# Altium footprint library PS29_XYD.PcbLib: 36 footprints (part 2 of 3)
Each footprint in its own frame and in the unit in brackets; x right, y up, seen from the top. Pads: shape width x height; smd on the part's side, far side on the other; paste and mask are expansions set on the pad; w line width, h text height; cw(c..) or ccw(c..) is an arc to the next point about the centre after c.
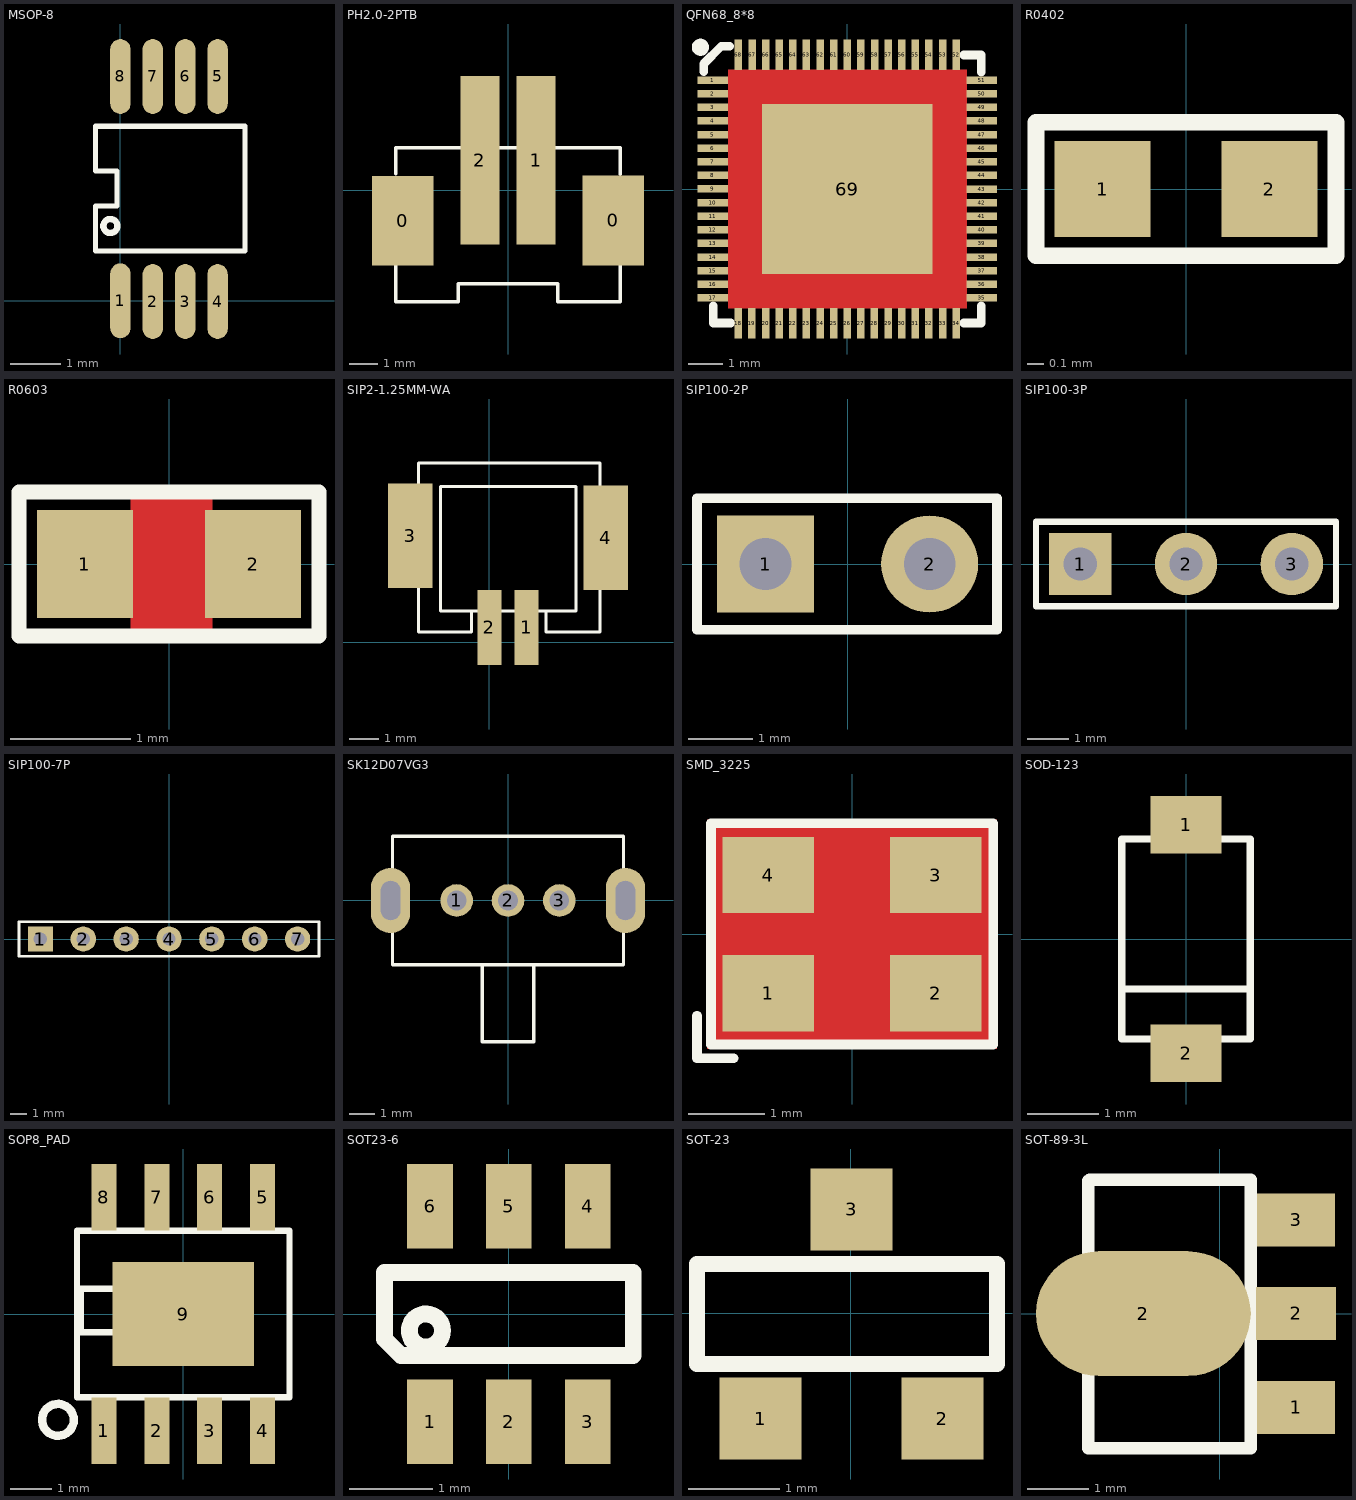
[diagram p1: the footprints below, top view; thin cyan lines are the x and y axes]

## MSOP-8 [mm]
pads (8):
  oval 0.409x1.501 smd: 1(0,0) 2(0.65,-0.016) 3(1.3,-0.016) 4(1.95,-0.016) 5(1.95,4.5) 6(1.3,4.5) 7(0.65,4.5) 8(0,4.5)
Top Overlay:
  circle w0.127: c-0.2,1.5 r0.141
  lines w0.102: -0.5,1 2.5,1 2.5,3.5 -0.5,3.5 -0.5,2.6 -0.067,2.6 -0.067,1.9 -0.5,1.9 -0.5,1

## PH2.0-2PTB [mm]
pads (4):
  rect 2.2x3.2 smd: 0(-3.75,-1.077) 0(3.75,-1.067)
  rect 1.4x6 smd: 1(1,1.077) 2(-1,1.077)
Top Overlay:
  lines w0.127: -4,-2.673 -4,-3.973 -1.778,-3.973 -1.778,-3.325 1.778,-3.325 1.778,-3.973 4,-3.973 4,-2.673 ; -4,0.603 -4,1.527 4,1.527 4,0.583

## QFN68_8*8 [mil]
pads (69):
  rect 35.44x8.66 smd: 1(-155.5,126) 2(-155.5,110.25) 3(-155.5,94.5) 4(-155.5,78.76) 5(-155.5,63.01) 6(-155.5,47.26) 7(-155.5,31.51) 8(-155.5,15.76) 9(-155.5,0.02) 10(-155.5,-15.73) 11(-155.5,-31.48) 12(-155.5,-47.23) 13(-155.5,-62.98) 14(-155.5,-78.72) 15(-155.5,-94.47) 16(-155.5,-110.22) 17(-155.5,-125.97) 35(155.5,-126) 36(155.5,-110.25) 37(155.5,-94.5) 38(155.5,-78.76) 39(155.5,-63.01) 40(155.5,-47.26) 41(155.5,-31.51) 42(155.5,-15.76) 43(155.5,-0.02) 44(155.5,15.73) 45(155.5,31.48) 46(155.5,47.23) 47(155.5,62.98) 48(155.5,78.72) 49(155.5,94.47) 50(155.5,110.22) 51(155.5,125.97)
  rect 8.66x35.44 smd: 18(-126,-155.5) 19(-110.25,-155.5) 20(-94.5,-155.5) 21(-78.76,-155.5) 22(-63.01,-155.5) 23(-47.26,-155.5) 24(-31.51,-155.5) 25(-15.76,-155.5) 26(-0.02,-155.5) 27(15.73,-155.5) 28(31.48,-155.5) 29(47.23,-155.5) 30(62.98,-155.5) 31(78.72,-155.5) 32(94.47,-155.5) 33(110.22,-155.5) 34(126,-155.5) 52(126,155.5) 53(110.25,155.5) 54(94.5,155.5) 55(78.76,155.5) 56(63.01,155.5) 57(47.26,155.5) 58(31.51,155.5) 59(15.76,155.5) 60(0.02,155.5) 61(-15.73,155.5) 62(-31.48,155.5) 63(-47.23,155.5) 64(-62.98,155.5) 65(-78.72,155.5) 66(-94.47,155.5) 67(-110.22,155.5) 68(-125.97,155.5)
  rect 196.85x196.85 smd: 69(0,0)
Top Layer:
  pour cut-out: -138,138 138,138 138,-138 -138,-138
Top Overlay:
  circle w11.81: c-169.94,164 r3.94
  lines w10: -166,136 -166,145 -146,165 -136,165 ; -155,-135 -155,-155 -135,-155 ; 135,-155 155,-155 155,-135 ; 135,155 155,155 155,135

## R0402 [mm]
pads (2):
  rect 0.575x0.575 smd: 1(-0.5,0) 2(0.5,0)
Top Overlay:
  lines w0.1: -0.9,-0.4 -0.9,0.4 0.9,0.4 0.9,-0.4 -0.9,-0.4

## R0603 [mil]
height 31
pads (2):
  rect 31.5x35.4 smd: 1(-27.56,0) 2(27.56,0)
Top Layer:
  pour cut-out: -12.6,22.44 14.17,22.44 14.17,-23.23 -12.6,-23.23
Top Overlay:
  lines w5: -49.21,-23.62 -49.21,23.62 49.21,23.62 49.21,-23.62 -49.21,-23.62

## SIP2-1.25MM-WA [mm]
pads (4):
  rect 0.8x2.5 smd: 1(1.25,0.5) 2(0,0.5)
  rect 1.5x3.5 smd: 3(-2.65,3.57) 4(3.9,3.501)
Top Overlay:
  lines w0.102: -0.59,0.977 -0.59,0.355 -2.369,0.355 -2.369,6.003 3.7,6.003 3.7,0.355 1.9,0.355 1.9,0.979 ; -1.636,1.048 2.9,1.048 2.9,5.23 -1.636,5.23 -1.636,1.048

## SIP100-2P [mm]
pads (2):
  rect 1.5x1.5 hole 0.8: 1(-1.27,0)
  round 1.5 hole 0.8: 2(1.27,0)
Top Overlay:
  lines w0.15: -2.33,-1.016 2.311,-1.016 2.311,1.016 -2.33,1.016 -2.33,-1.016

## SIP100-3P [mm]
pads (3):
  rect 1.5x1.5 hole 0.8: 1(-2.54,0)
  round 1.5 hole 0.8: 2(0,0) 3(2.54,0)
Top Overlay:
  lines w0.15: -3.6,-1.016 3.6,-1.016 3.6,1.016 -3.6,1.016 -3.6,-1.016

## SIP100-7P [mm]
pads (7):
  rect 1.5x1.5 hole 0.8: 1(-7.62,0)
  round 1.5 hole 0.8: 2(-5.08,0) 3(-2.54,0) 4(0,0) 5(2.54,0) 6(5.08,0) 7(7.62,0)
Top Overlay:
  lines w0.15: -8.89,-1.016 8.89,-1.016 8.89,1.016 -8.89,1.016 -8.89,-1.016

## SK12D07VG3 [mil]
pads (5):
  round 50 hole 30: 1(-78.74,0) 2(0,0) 3(78.74,0)
  oval 60x100 hole 30 slot 60 at 90 deg: ""(-180,0) ""(180,0)
Top Overlay:
  lines w5: -39.37,-98.43 -39.37,-216.54 39.37,-216.54 39.37,-98.43 ; 177.17,-98.42 177.17,98.43 ; 177.17,-98.42 177.17,-98.42 ; 177.17,-98.42 -177.17,-98.43 -177.17,98.42 -177.17,98.43 177.17,98.43 ; 177.17,98.43 177.17,98.43

## SMD_3225 [mm]
pads (4):
  rect 1.2x1 smd: 1(-1.1,-0.775) 2(1.1,-0.775) 3(1.1,0.775) 4(-1.1,0.775)
Top Layer:
  pour cut-out: -1.9,1.5 1.9,1.5 1.9,-1.5 -1.9,-1.5
Top Overlay:
  lines w0.127: -2.032,-1.067 -2.032,-1.626 -1.549,-1.626 ; -1.848,-1.447 -1.848,1.453 1.852,1.453 1.852,-1.447 -1.848,-1.447

## SOD-123 [mm]
pads (2):
  rect 1x0.8 smd: 1(0,1.6) 2(0,-1.6)
Top Overlay:
  lines w0.1: -0.85,-0.7 0.85,-0.7 ; -0.9,-1.4 -0.9,1.4 0.9,1.4 0.9,-1.4 -0.9,-1.4

## SOP8_PAD [mm]
pads (9):
  rect 0.6x1.6 smd: 1(-1.905,-2.8) 2(-0.635,-2.8) 3(0.635,-2.8) 4(1.905,-2.8) 5(1.905,2.8) 6(0.635,2.8) 7(-0.635,2.8) 8(-1.905,2.8)
  rect 3.4x2.5 smd: 9(0,0)
Top Overlay:
  circle w0.203: c-3.009,-2.54 r0.381
  lines w0.152: -2.55,-2 2.55,-2 2.55,2 -2.55,2 -2.55,-2 ; -2.462,-0.436 -1.467,-0.436 -1.467,0.61 -2.462,0.61 -2.462,-0.436

## SOT23-6 [mm]
pads (6):
  rect 0.55x1.016 smd: 1(-0.95,-1.3) 2(0,-1.3) 3(0.95,-1.3) 4(0.95,1.3) 5(0,1.3) 6(-0.95,1.3)
Top Overlay:
  circle w0.203: c-1,-0.2 r0.2
  lines w0.025: -1.52,-0.21 -1.52,0.27
  lines w0.203: -1.5,-0.3 -1.3,-0.5 1.5,-0.5 1.5,0.5 -1.5,0.5 -1.5,-0.3

## SOT-23 [mm]
pads (3):
  rect 0.9x0.9 smd: 1(-0.991,-1.161) 2(1.009,-1.161) 3(0.009,1.139)
Top Overlay:
  lines w0.178: -1.691,-0.561 -1.691,0.539 1.609,0.539 1.609,-0.561 -1.691,-0.561

## SOT-89-3L [mil]
pads (4):
  rect 50x34 smd: 1(49,-60.15) 3(49,60.15)
  oval 137.8x80 smd: 2(-49,0)
  rect 51.18x34 smd: 2(49,0.15)
Top Overlay:
  lines w7.87: -84.36,-86.49 19.81,-86.49 19.81,85.96 -83.55,85.96
  lines w8: -84.36,-86.49 -84.36,85.15